# Altium footprint library EXP_HW_V3.PcbLib: 103 footprints (part 7 of 7)
Each footprint in its own frame and in the unit in brackets; x right, y up, seen from the top. Pads: shape width x height; smd on the part's side, far side on the other; paste and mask are expansions set on the pad; w line width, h text height; cw(c..) or ccw(c..) is an arc to the next point about the centre after c.
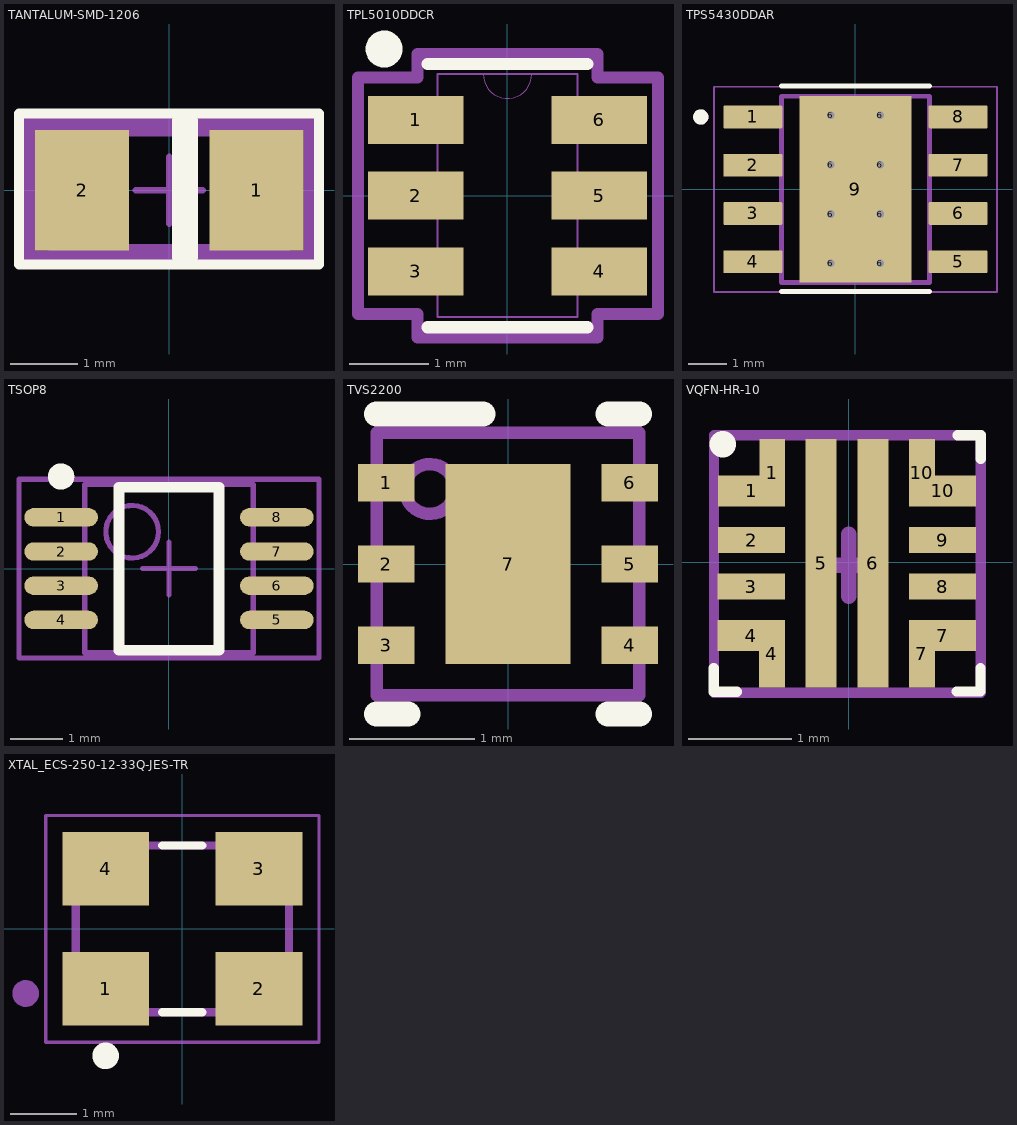
[diagram p6: the footprints below, top view; thin cyan lines are the x and y axes]

## TANTALUM-SMD-1206 [mm]
pads (2):
  rect 1.4x1.8 smd paste+0: 1(1.298,0) 2(-1.302,0)
Top Overlay:
  lines w0.15: -2.241,-1.106 2.228,-1.106 2.228,1.143 -2.241,1.143 -2.241,-1.106
  lines w0.381: 0.232,-0.991 0.232,1.027
Top Assembly:
  lines w0.2: -2.102,-1 -2.102,1 2.098,1 2.098,-1 -2.102,-1
Top 3D Body:
  lines w0.2: -1.702,-0.9 -1.702,0.9 1.698,0.9 1.698,-0.9 -1.702,-0.9
Top Courtyard:
  lines w0.2: -2.102,-1 -2.102,1 2.098,1 2.098,-1 -2.102,-1
Top Component Center:
  lines w0.1: -0.502,0 0.498,0 ; -0.002,-0.5 -0.002,0.5
3D body "Cap_AVX_Corporation_TLJA107M010R1400_eec.STEP": height 0.25, standoff 0, extent -2.102,-1 2.098,1

## TPL5010DDCR [mm]
pads (6):
  rect 1.2x0.6 smd paste+0: 1(-1.15,0.95) 2(-1.15,0) 3(-1.15,-0.95) 4(1.15,-0.95) 5(1.15,0) 6(1.15,0.95)
Top Overlay:
  circle w0.254: c-1.548,1.839 r0.105
  lines w0.152: -1.003,-1.651 1.003,-1.651 ; -1.003,1.651 1.003,1.651
Mechanical 13:
  lines w0: -0.305,1.524 ccw(c0,1.524) 0.305,1.524
  lines w0.025: -1.499,-1.204 -0.876,-1.204 -0.876,-0.696 -1.499,-0.696 -1.499,-1.204 ; -1.499,-0.254 -0.876,-0.254 -0.876,0.254 -1.499,0.254 -1.499,-0.254 ; -1.499,0.696 -0.876,0.696 -0.876,1.204 -1.499,1.204 -1.499,0.696 ; -0.876,-1.524 -0.876,1.524 0.876,1.524 0.876,-1.524 -0.876,-1.524 ; 0.876,-1.204 1.499,-1.204 1.499,-0.696 0.876,-0.696 0.876,-1.204 ; 0.876,-0.254 1.499,-0.254 1.499,0.254 0.876,0.254 0.876,-0.254 ; 0.876,0.696 1.499,0.696 1.499,1.204 0.876,1.204 0.876,0.696
Mechanical 15:
  lines w0.152: -1.875,-1.483 -1.13,-1.483 -1.13,-1.778 1.13,-1.778 1.13,-1.483 1.889,-1.483 1.889,1.483 1.13,1.483 1.13,1.778 -1.13,1.778 -1.13,1.483 -1.875,1.483 -1.875,-1.483
3D body "SOT23-6L_STM.step": height 1.45, standoff 0, extent -1.499,-1.524 1.499,1.524

## TPS5430DDAR [mm] "IC REG BUCK ADJ 3A 8SOPWR"
pads (17):
  rrect10% 1.55x0.6 smd mask+0: 1(-2.7,1.905) 2(-2.7,0.635) 3(-2.7,-0.635) 4(-2.7,-1.905) 5(2.7,-1.905) 6(2.7,-0.635) 7(2.7,0.635) 8(2.7,1.905)
  round 0.3 hole 0.2 mask+0: 6(-0.65,-1.95) 6(-0.65,-0.65) 6(-0.65,0.65) 6(-0.65,1.95) 6(0.65,-1.95) 6(0.65,-0.65) 6(0.65,0.65) 6(0.65,1.95)
  rect 2.95x4.9 smd paste+0: 9(0,0)
Top Overlay:
  circle w0.2: c-4.07,1.905 r0.1
  lines w0.127: -1.944,-2.692 1.956,-2.692 ; -1.944,2.718 1.956,2.718
Top Paste:
  region: 1.3,-1.55 -1.3,-1.55 -1.3,1.55 1.3,1.55
Top Solder:
  drawing of 9 lines, arcs and shapes, not listed
Mechanical 13:
  circle w0.2: c-4.07,1.905 r0.1
  lines w0.127: -1.95,-2.45 1.95,-2.45 1.95,2.45 -1.95,2.45 -1.95,-2.45
Mechanical 15:
  lines w0.05: -3.725,-2.7 3.725,-2.7 3.725,2.7 -3.725,2.7 -3.725,-2.7
3D body "step_temp.STEP": height 1.7, standoff 0, extent -3,-2.45 3,2.45

## TSOP8 [mm] "TSOP, 8-Leads, Body 3x3mm, Pitch 0.65mm, IPC High Density"
height 1.1
pads (8):
  oval 1.4x0.35 smd: 1(-2.05,0.975) 2(-2.05,0.325) 3(-2.05,-0.325) 4(-2.05,-0.975) 5(2.05,-0.975) 6(2.05,-0.325) 7(2.05,0.325) 8(2.05,0.975)
Top Overlay:
  circle w0.25: c-2.05,1.75 r0.125
  lines w0.2: -0.95,-1.55 -0.95,1.55 0.95,1.55 0.95,-1.55 -0.95,-1.55
Mechanical 13:
  circle w0.1: c-0.7,0.7 r0.5
  lines w0.1: -1.6,-1.6 -1.6,1.6 1.6,1.6 1.6,-1.6 -1.6,-1.6
Mechanical 15:
  lines w0.1: -0.5,0 0.5,0 ; 0,-0.5 0,0.5 ; -2.85,-1.7 -2.85,1.7 2.85,1.7 2.85,-1.7 -2.85,-1.7
3D body "TSOP65P470X150-8N.step": height 1.5, standoff 0, extent -2.35,-1.5 2.35,1.5

## TVS2200 [mm]
pads (7):
  rect 0.45x0.3 smd paste+0 mask+0.051: 1(-0.977,0.651) 2(-0.977,0.001) 3(-0.977,-0.649) 4(0.973,-0.649) 5(0.973,0.001) 6(0.973,0.651)
  rect 1x1.6 smd paste-0.5 mask+0.051: 7(-0.002,0.001)
Top Overlay:
  lines w0.2: -1.052,-1.199 -0.802,-1.199 ; -1.052,1.201 -0.202,1.201 ; 0.798,-1.199 1.048,-1.199 ; 0.798,1.201 1.048,1.201
Top Paste:
  region: -0.501,-0.76 -0.502,-0.75 -0.502,-0.148 -0.501,-0.139 -0.498,-0.13 -0.493,-0.121 -0.487,-0.114 -0.48,-0.108 -0.471,-0.103 -0.462,-0.1 -0.453,-0.099 0.449,-0.099 0.459,-0.1 0.468,-0.103 0.477,-0.108 0.484,-0.114 0.49,-0.121 0.495,-0.13 0.497,-0.139 0.498,-0.148 0.498,-0.75 0.497,-0.76 0.495,-0.769 0.49,-0.777 0.484,-0.785 0.477,-0.791 0.468,-0.796 0.459,-0.798 0.449,-0.799 -0.453,-0.799 -0.462,-0.798 -0.471,-0.796 -0.48,-0.791 -0.487,-0.785 -0.493,-0.777 -0.498,-0.769
  region: -0.501,0.14 -0.502,0.15 -0.502,0.752 -0.501,0.761 -0.498,0.77 -0.493,0.779 -0.487,0.786 -0.48,0.792 -0.471,0.797 -0.462,0.8 -0.453,0.801 0.449,0.801 0.459,0.8 0.468,0.797 0.477,0.792 0.484,0.786 0.49,0.779 0.495,0.77 0.497,0.761 0.498,0.752 0.498,0.15 0.497,0.14 0.495,0.131 0.49,0.123 0.484,0.115 0.477,0.109 0.468,0.104 0.459,0.102 0.449,0.101 -0.453,0.101 -0.462,0.102 -0.471,0.104 -0.48,0.109 -0.487,0.115 -0.493,0.123 -0.498,0.131
Mechanical 13:
  circle w0.1: c-0.627,0.601 r0.2
  lines w0.1: -1.052,-1.049 1.048,-1.049 1.048,1.051 -1.052,1.051 -1.052,-1.049
3D body "DRV0006A.stp": height 0.8, standoff 0, extent -1.002,-0.997 0.998,1.003

## VQFN-HR-10 [mm]
pads (14):
  rect 0.65x0.3 smd: 1(-0.938,0.692) 4(-0.941,-0.708) 7(0.909,-0.708) 10(0.909,0.692)
  rect 0.25x0.65 smd: 1(-0.738,0.867) 4(-0.741,-0.883) 7(0.709,-0.883) 10(0.709,0.867)
  rect 0.65x0.25 smd: 2(-0.938,0.216) 3(-0.941,-0.233) 8(0.909,-0.233) 9(0.909,0.216)
  rect 0.3x2.4 smd: 5(-0.265,-0.008) 6(0.235,-0.007)
Top Overlay:
  lines w0.1: -1.304,-1.022 -1.304,-1.25 -1.078,-1.25 ; 1.047,-1.247 1.275,-1.247 1.275,-1.021 ; 1.053,1.228 1.279,1.228 1.279,1
  lines w0.254: -1.216,1.143 -1.213,1.143
Top 3D Body:
  lines w0.1: -1.301,-1.261 1.278,-1.261 1.278,1.231 -1.301,1.231 -1.301,-1.261
  lines w0.15: -0.298,-0.027 0.302,-0.027 ; 0.002,-0.327 0.002,0.273
3D body "TPS259470ARPWR.step": height 1, standoff 0, extent -1.028,-1.005 0.972,0.995

## XTAL_ECS-250-12-33Q-JES-TR [mm]
pads (4):
  rect 1.3x1.1 smd: 1(-1.15,-0.9) 2(1.15,-0.9) 3(1.15,0.9) 4(-1.15,0.9)
Top Overlay:
  circle w0.2: c-1.15,-1.905 r0.1
  lines w0.127: -0.3,-1.25 0.3,-1.25 ; -0.3,1.25 0.3,1.25
Mechanical 13:
  circle w0.2: c-2.35,-0.97 r0.1
  lines w0.127: -1.6,-1.25 1.6,-1.25 1.6,1.25 -1.6,1.25 -1.6,-1.25
Mechanical 15:
  lines w0.05: -2.05,-1.7 2.05,-1.7 2.05,1.7 -2.05,1.7 -2.05,-1.7
3D body "step_temp.STEP": height 0.8, standoff 0, extent -1.6,-1.25 1.6,1.25